# EAGLE library part 615008145221 (library 615008185221_Eagle_WR-MJ_rev20b)
WR-MJ Modular Jack 45° Entry Shielded 8P8C Standard & Reverse Metal Post Trail KIND PROPERTIES Quality Class:500 Mating cycles General Information Operating Temperature:-40 up to +85 °C Compliance:RoHS Electrical Properties IR1:1.5A Working Voltage:120V (AC) Withstanding Voltage:1000V (AC) Contact Resistance:20mΩ RISO:500 MΩ Material Properties Insulator MateriaL:PBT Insulator Flammability Rating:UL94 V-0 Color:White Contact Material:Copper Alloy Contact Plating:Selective Gold Contact Type:Stamped Shielding Material:Bronze Shielding Plating:Nickel Packaging Properties Packaging:Tray <https://www.we-online.com/catalog/media/o33136v209%20Family_WR-MJ_615008145x21.jpg> Details see: https://www.we-online.com/catalog/en/MJ_45-DEGREE_ENTRY_SHIELDED_8P8C_STANDARD_REVERSE_METAL_POST_TAIL_615008145X21/ Updated by Yingchun,Shan 2019-11-26 2019 (C) Würth Elektronik
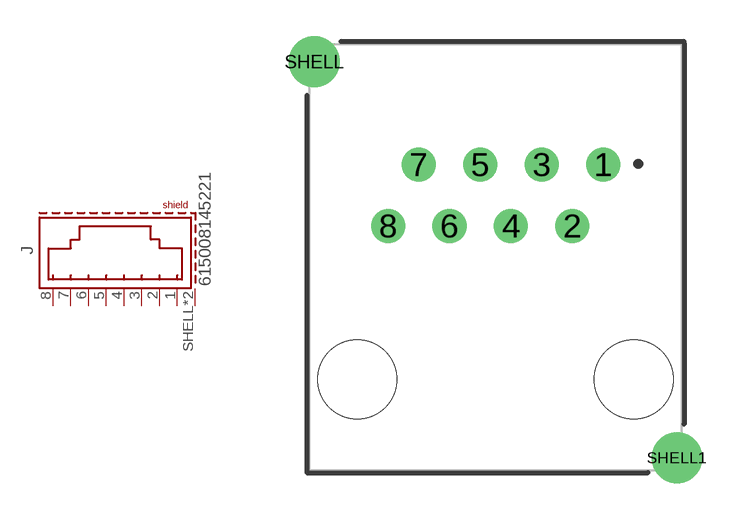
[diagram p39: symbol with the pads of 615008145221; footprint 615008145221]

Designator prefix J

## 615008145221 (DATASHEET-URL: https://www.we-online.com/catalog/datasheet/615008145221.pdf; LED: /; MOUNT: THT; PART-NUMBER: 615008145221; TYPE: 45°; VALUE: 615008145221; XPXC: 8P8C)  [615008145221]
1  1  pas
2  2  pas
3  3  pas
4  4  pas
5  5  pas
6  6  pas
7  7  pas
8  8  pas
SHELL  SHIELD  pas
SHELL1  SHIELD  pas

## Footprint 615008145221 (pad centres in mm)
WR-MJ Modular Jack 45° Entry Shielded 8P8C Standard & Reverse Metal Post Trail, 8 pins
drill 0.9: 1 4.445,3.83; 2 3.175,1.29; 3 1.905,3.83; 4 0.635,1.29; 5 -0.635,3.83; 6 -1.905,1.29; 7 -3.175,3.83; 8 -4.445,1.29
drill 1.4: SHELL -7.5,8.09; SHELL1 7.5,-8.31
hole 3.25 at -5.715,-5.06
hole 3.25 at 5.715,-5.06